# Altium schematic symbol library PIC(40)pin.SchLib: 1 symbol
Pins are listed as number, name and electrical type; pins without a type are passive.

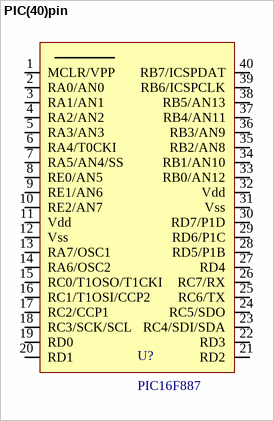
[diagram p0: symbol PIC(40)pin]

## PIC(40)pin
designator U?, comment PIC16F887
footprint PIC(40pin)
pins: 1 MCLR/VPP, 2 RA0/AN0, 3 RA1/AN1, 4 RA2/AN2, 5 RA3/AN3, 6 RA4/T0CKI, 7 RA5/AN4/SS, 8 RE0/AN5, 9 RE1/AN6, 10 RE2/AN7, 11 Vdd, 12 Vss, 13 RA7/OSC1, 14 RA6/OSC2, 15 RC0/T1OSO/T1CKI, 16 RC1/T1OSI/CCP2, 17 RC2/CCP1, 18 RC3/SCK/SCL, 19 RD0, 20 RD1, 21 RD2, 22 RD3, 23 RC4/SDI/SDA, 24 RC5/SDO, 25 RC6/TX, 26 RC7/RX, 27 RD4, 28 RD5/P1B, 29 RD6/P1C, 30 RD7/P1D, 31 Vss, 32 Vdd, 33 RB0/AN12, 34 RB1/AN10, 35 RB2/AN8, 36 RB3/AN9, 37 RB4/AN11, 38 RB5/AN13, 39 RB6/ICSPCLK, 40 RB7/ICSPDAT